# Altium schematic symbol library SIM800L_SHIELD.Schlib: 1 symbol
Pins are listed as number, name and electrical type; pins without a type are passive.

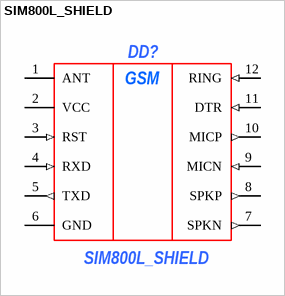
[diagram p0: symbol SIM800L_SHIELD]

## SIM800L_SHIELD
designator DD?
ComponentLink1Description: *; ComponentLink1URL: *; ComponentLink2Description: *; ComponentLink2URL: *; ManufacturerPartNumber: SIM800L_SHIELD; Power/Voltage: *; Rem: *; TKE: *; Tolerance: *; TU/GOST: *; Value: *; Корпус: *; Примечание: *; Manufacturer: *; Author: *; Type: *
footprint SIM800L_shield
pins: 1 ANT, 2 VCC (power), 3 RST (in), 4 RXD (in), 5 TXD (out), 6 GND (power), 7 SPKN (out), 8 SPKP (out), 9 MICN (in), 10 MICP (out), 11 DTR (in), 12 RING (in)
text: GSM